# Altium footprint library version2.PcbLib: 15 footprints
Each footprint in its own frame and in the unit in brackets; x right, y up, seen from the top. Pads: shape width x height; smd on the part's side, far side on the other; paste and mask are expansions set on the pad; w line width, h text height; cw(c..) or ccw(c..) is an arc to the next point about the centre after c.
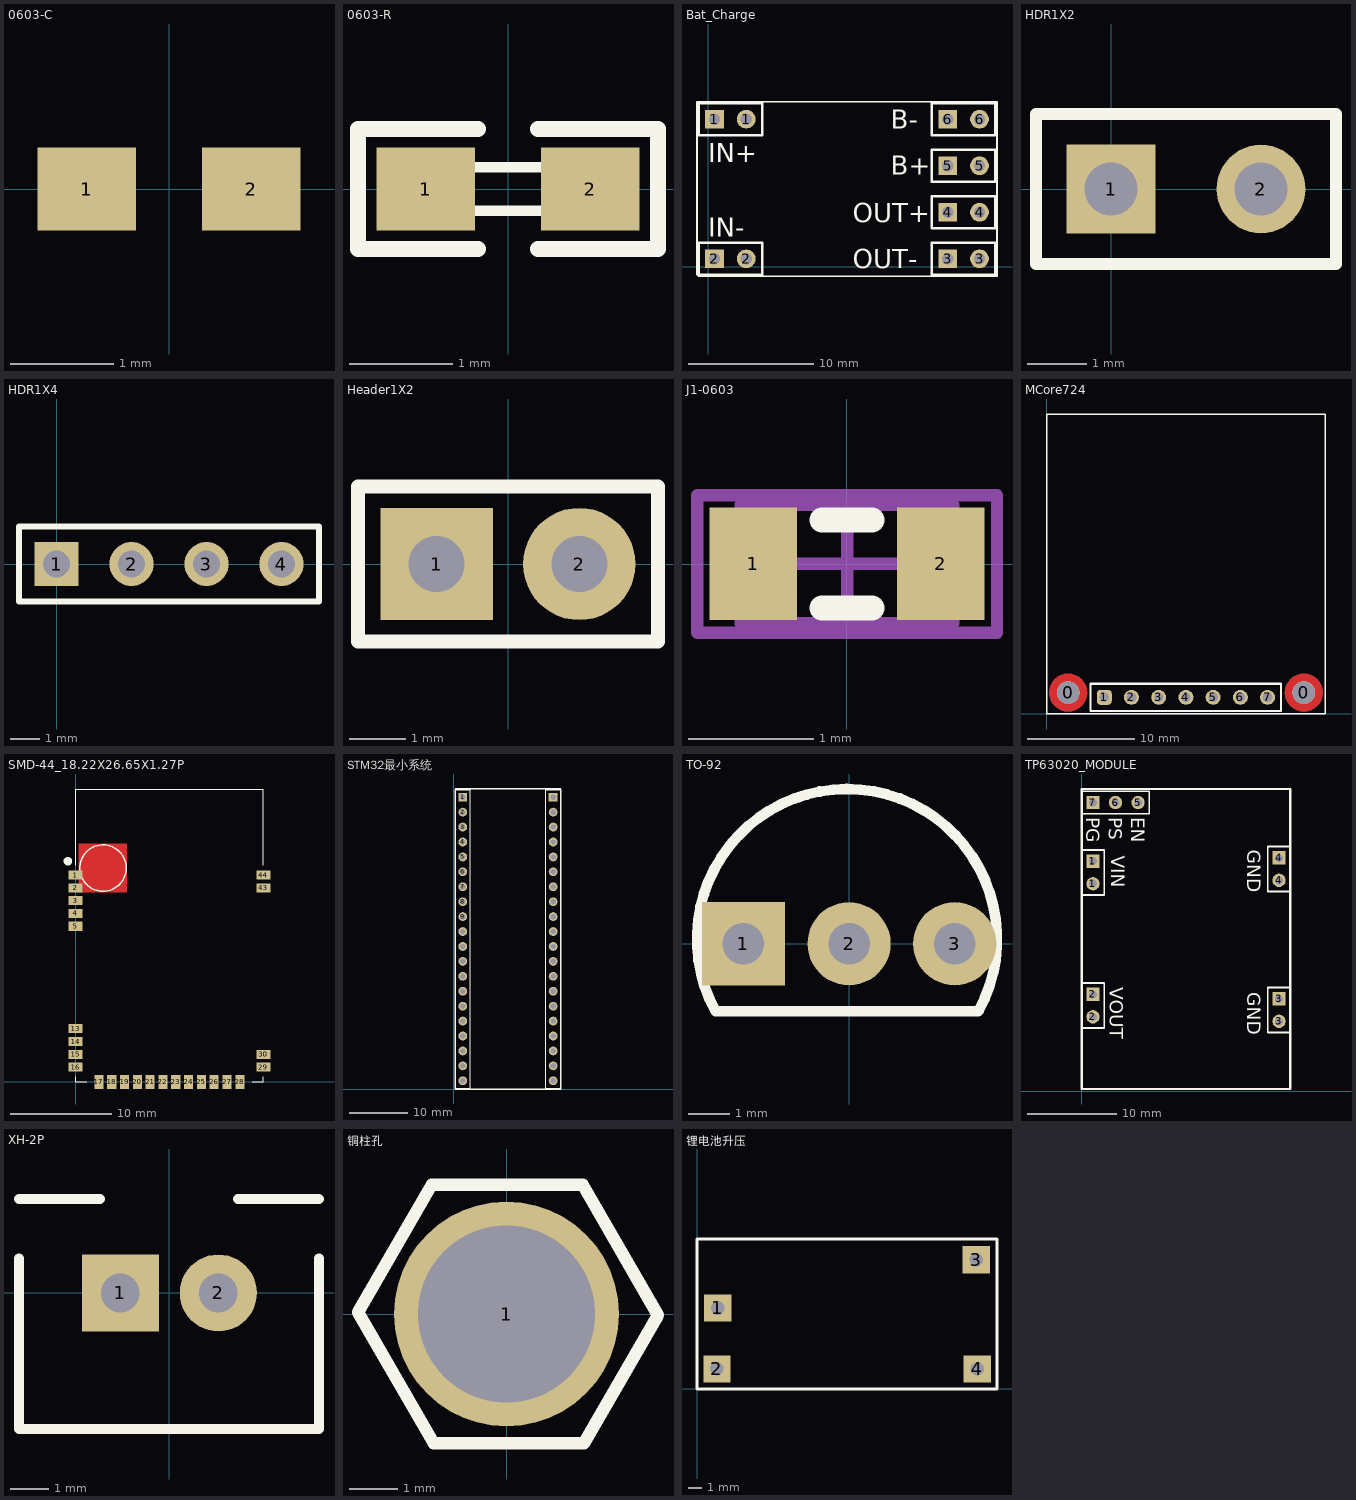
[diagram p0: the footprints below, top view; thin cyan lines are the x and y axes]

## 0603-C [mm]
pads (2):
  rect 0.953x0.8 smd: 1(-0.794,0) 2(0.794,0)
Bottom Overlay:
  lines w0.1: -0.794,0 -0.17,0 ; -0.15,-0.5 -0.15,0.5 ; 0.15,-0.5 0.15,0.5 ; 0.17,0 0.794,0
  lines w0.154: -0.29,-0.58 -1.45,-0.58 -1.45,0.58 -0.29,0.58 ; 0.29,-0.58 1.45,-0.58 1.45,0.58 0.29,0.58
3D body "SW3dPS-0603 SMD Capacitor.STEP": height 0.3, standoff 0, extent -0.8,-0.4 0.8,0.4

## 0603-R [mm]
pads (2):
  rect 0.953x0.8 smd: 1(-0.794,0) 2(0.794,0)
Top Overlay:
  lines w0.1: -0.794,0 -0.65,0 ; 0.65,0 0.794,0 ; -0.65,-0.21 0.65,-0.21 0.65,0.21 -0.65,0.21 -0.65,-0.21
  lines w0.154: -0.29,-0.58 -1.45,-0.58 -1.45,0.58 -0.29,0.58 ; 0.29,-0.58 1.45,-0.58 1.45,0.58 0.29,0.58
3D body "SW3dPS-0603 SMD Resistor.STEP": height 0.3, standoff 0, extent -0.8,-0.4 0.8,0.4

## Bat_Charge [mm]
pads (12):
  rect 1.5x1.5 hole 0.9: 1(0.508,11.811) 2(0.508,0.635) 3(19.177,0.635) 4(19.177,4.36) 5(19.177,8.086) 6(19.177,11.811)
  round 1.5 hole 0.9: 1(3.048,11.811) 2(3.048,0.635) 3(21.717,0.635) 4(21.717,4.36) 5(21.717,8.086) 6(21.717,11.811)
Top Layer:
  lines w0.254: 21.717,4.36 21.717,4.445
Top Overlay:
  lines w0.127: -0.889,-0.635 -0.762,-0.762 23.114,-0.762 23.114,13.208 -0.889,13.208 -0.889,-0.635
  lines w0.2: -0.762,-0.635 4.318,-0.635 4.318,1.905 -0.762,1.905 -0.762,-0.635 ; -0.762,10.541 4.318,10.541 4.318,13.081 -0.762,13.081 -0.762,10.541 ; 17.907,-0.635 22.987,-0.635 22.987,1.905 17.907,1.905 17.907,-0.635 ; 17.907,3.09 22.987,3.09 22.987,5.63 17.907,5.63 17.907,3.09 ; 17.907,6.816 22.987,6.816 22.987,9.356 17.907,9.356 17.907,6.816 ; 17.907,10.541 22.987,10.541 22.987,13.081 17.907,13.081 17.907,10.541
  text "IN+" at 0,8.382 h1.52
  text "IN-" at 0,2.413 h1.52
  text "B-" at 14.605,11.049 h1.52
  text "B+" at 14.605,7.366 h1.52
  text "OUT+" at 11.557,3.556 h1.52
  text "OUT-" at 11.557,-0.127 h1.52

## HDR1X2 [mm]
pads (2):
  rect 1.5x1.5 hole 0.9: 1(0,0)
  round 1.5 hole 0.9: 2(2.54,0)
Top Overlay:
  lines w0.2: -1.27,-1.27 -1.27,1.27 3.81,1.27 3.81,-1.27 -1.27,-1.27

## HDR1X4 [mm]
pads (4):
  rect 1.5x1.5 hole 0.9: 1(0,0)
  round 1.5 hole 0.9: 2(2.54,0) 3(5.08,0) 4(7.62,0)
Top Overlay:
  lines w0.2: -1.27,-1.27 8.89,-1.27 8.89,1.27 -1.27,1.27 -1.27,-1.27

## Header1X2 [mm]
pads (2):
  rect 2x2 hole 1: 1(-1.27,0)
  round 2 hole 1: 2(1.27,0)
Top Overlay:
  lines w0.254: -2.67,-1.38 2.67,-1.38 2.67,1.38 -2.67,1.38 -2.67,-1.38
3D body "Samtec-MTLW-102-07-G-S-250.STEP": height 7.87, standoff -3.05, extent -2.54,-1.245 2.54,1.245

## J1-0603 [mm]
pads (2):
  rect 0.7x0.9 smd: 1(-0.75,0) 2(0.75,0)
Top Overlay:
  lines w0.2: -0.2,-0.35 0.2,-0.35 ; -0.2,0.35 0.2,0.35
Mechanical 13:
  lines w0.1: -0.85,-0.475 -0.85,0.475 0.85,0.475 0.85,-0.475 -0.85,-0.475
Mechanical 15:
  lines w0.1: -0.475,0 0.475,0 ; 0,-0.475 0,0.475 ; -1.2,-0.55 -1.2,0.55 1.2,0.55 1.2,-0.55 -1.2,-0.55
3D body: height 0.9, standoff 0, extent -0.85,-0.475 0.85,0.475

## MCore724 [mm]
pads (9):
  round 2.1 hole 2.1 unplated: 0(2,1.997) 0(24,1.997)
  rrect50% 1.4x1.4 hole 0.9: 1(5.373,1.555)
  round 1.4 hole 0.9: 2(7.913,1.555) 3(10.453,1.555) 4(12.993,1.555) 5(15.533,1.555) 6(18.073,1.555) 7(20.613,1.555)
Top Layer:
  pour cut-out: 22.229,1.997 22.263,1.651 22.364,1.319 22.527,1.013 22.748,0.744 23.016,0.524 23.322,0.36 23.654,0.259 24,0.225 24.346,0.259 24.678,0.36 24.984,0.524 25.252,0.744 25.473,1.013 25.636,1.319 25.737,1.651 25.771,1.997 25.737,2.342 25.636,2.674 25.473,2.981 25.252,3.249 24.984,3.469 24.678,3.633 24.346,3.734 24,3.768 23.654,3.734 23.322,3.633 23.016,3.469 22.748,3.249 22.527,2.981 22.364,2.674 22.263,2.342
  pour cut-out: 0.229,1.997 0.263,1.651 0.364,1.319 0.527,1.013 0.748,0.744 1.016,0.524 1.322,0.36 1.654,0.259 2,0.225 2.346,0.259 2.678,0.36 2.984,0.524 3.252,0.744 3.473,1.013 3.636,1.319 3.737,1.651 3.771,1.997 3.737,2.342 3.636,2.674 3.473,2.981 3.252,3.249 2.984,3.469 2.678,3.633 2.346,3.734 2,3.768 1.654,3.734 1.322,3.633 1.016,3.469 0.748,3.249 0.527,2.981 0.364,2.674 0.263,2.342
Bottom Layer:
  circle w0: c24,1.997 r1.05
  circle w0: c2,1.997 r1.05
  pour cut-out: 22.242,1.997 22.275,1.654 22.375,1.324 22.538,1.02 22.757,0.753 23.023,0.534 23.327,0.372 23.657,0.272 24,0.238 24.343,0.272 24.673,0.372 24.977,0.534 25.243,0.753 25.462,1.02 25.625,1.324 25.725,1.654 25.758,1.997 25.725,2.34 25.625,2.67 25.462,2.974 25.243,3.24 24.977,3.459 24.673,3.621 24.343,3.721 24,3.755 23.657,3.721 23.327,3.621 23.023,3.459 22.757,3.24 22.538,2.974 22.375,2.67 22.275,2.34
  pour cut-out: 0.242,1.997 0.275,1.654 0.375,1.324 0.538,1.02 0.757,0.753 1.023,0.534 1.327,0.372 1.657,0.272 2,0.238 2.343,0.272 2.673,0.372 2.977,0.534 3.243,0.753 3.462,1.02 3.625,1.324 3.725,1.654 3.758,1.997 3.725,2.34 3.625,2.67 3.462,2.974 3.243,3.24 2.977,3.459 2.673,3.621 2.343,3.721 2,3.755 1.657,3.721 1.327,3.621 1.023,3.459 0.757,3.24 0.538,2.974 0.375,2.67 0.275,2.34
Top Overlay:
  lines w0.127: 0,-0.003 0,27.997 26,27.997 26,0 0,0
  lines w0.2: 4.103,0.285 4.103,2.825 21.883,2.825 21.883,0.285 4.103,0.285
Bottom Overlay:
  lines w0.2: 4.103,0.285 4.103,2.825 21.883,2.825 21.883,0.285 4.103,0.285
Top Solder:
  region: 22.242,1.997 22.275,1.654 22.375,1.324 22.538,1.02 22.757,0.753 23.023,0.534 23.327,0.372 23.657,0.272 24,0.238 24.343,0.272 24.673,0.372 24.977,0.534 25.243,0.753 25.462,1.02 25.625,1.324 25.725,1.654 25.758,1.997 25.725,2.34 25.625,2.67 25.462,2.974 25.243,3.24 24.977,3.459 24.673,3.621 24.343,3.721 24,3.755 23.657,3.721 23.327,3.621 23.023,3.459 22.757,3.24 22.538,2.974 22.375,2.67 22.275,2.34
  region: 0.242,1.997 0.275,1.654 0.375,1.324 0.538,1.02 0.757,0.753 1.023,0.534 1.327,0.372 1.657,0.272 2,0.238 2.343,0.272 2.673,0.372 2.977,0.534 3.243,0.753 3.462,1.02 3.625,1.324 3.725,1.654 3.758,1.997 3.725,2.34 3.625,2.67 3.462,2.974 3.243,3.24 2.977,3.459 2.673,3.621 2.343,3.721 2,3.755 1.657,3.721 1.327,3.621 1.023,3.459 0.757,3.24 0.538,2.974 0.375,2.67 0.275,2.34
Bottom Solder:
  circle w0: c24,1.997 r1.75
  circle w0: c2,1.997 r1.75
  region: 22.242,1.997 22.275,1.654 22.375,1.324 22.538,1.02 22.757,0.753 23.023,0.534 23.327,0.372 23.657,0.272 24,0.238 24.343,0.272 24.673,0.372 24.977,0.534 25.243,0.753 25.462,1.02 25.625,1.324 25.725,1.654 25.758,1.997 25.725,2.34 25.625,2.67 25.462,2.974 25.243,3.24 24.977,3.459 24.673,3.621 24.343,3.721 24,3.755 23.657,3.721 23.327,3.621 23.023,3.459 22.757,3.24 22.538,2.974 22.375,2.67 22.275,2.34
  region: 0.242,1.997 0.275,1.654 0.375,1.324 0.538,1.02 0.757,0.753 1.023,0.534 1.327,0.372 1.657,0.272 2,0.238 2.343,0.272 2.673,0.372 2.977,0.534 3.243,0.753 3.462,1.02 3.625,1.324 3.725,1.654 3.758,1.997 3.725,2.34 3.625,2.67 3.462,2.974 3.243,3.24 2.977,3.459 2.673,3.621 2.343,3.721 2,3.755 1.657,3.721 1.327,3.621 1.023,3.459 0.757,3.24 0.538,2.974 0.375,2.67 0.275,2.34
Keep-Out Layer:
  board cut-out: 22.941,1.997 22.977,1.722 23.083,1.467 23.251,1.248 23.47,1.079 23.726,0.974 24,0.938 24.274,0.974 24.53,1.079 24.749,1.248 24.917,1.467 25.023,1.722 25.059,1.997 25.023,2.271 24.917,2.526 24.749,2.745 24.53,2.914 24.274,3.02 24,3.056 23.726,3.02 23.47,2.914 23.251,2.745 23.083,2.526 22.977,2.271
  board cut-out: 0.941,1.997 0.977,1.722 1.083,1.467 1.251,1.248 1.47,1.079 1.726,0.974 2,0.938 2.274,0.974 2.53,1.079 2.749,1.248 2.917,1.467 3.023,1.722 3.059,1.997 3.023,2.271 2.917,2.526 2.749,2.745 2.53,2.914 2.274,3.02 2,3.056 1.726,3.02 1.47,2.914 1.251,2.745 1.083,2.526 0.977,2.271
3D body "1001-7.STEP": height 8.54, standoff -3, extent 4.103,0.285 21.883,2.825

## SMD-44_18.22X26.65X1.27P [mm]
pads (25):
  rect 1.4x0.9 smd: 1(0,20.52) 2(0,19.25) 3(0,17.98) 4(0,16.71) 5(0,15.44) 13(0,5.28) 14(0,4.01) 15(0,2.74) 16(0,1.47) 29(18.62,1.47) 30(18.62,2.74) 43(18.62,19.25) 44(18.62,20.52)
  rect 0.9x1.4 smd: 17(2.31,0) 18(3.58,0) 19(4.85,0) 20(6.12,0) 21(7.39,0) 22(8.66,0) 23(9.93,0) 24(11.2,0) 25(12.47,0) 26(13.74,0) 27(15.02,0) 28(16.29,0)
Top Layer:
  pour cut-out: 0.33,23.622 5.08,23.622 5.08,18.796 0.33,18.796
Top Overlay:
  circle w0.762: c-0.762,21.895 r0.036
  circle w0.152: c2.72,21.21 r2.3
  lines w0.07: 0,0.5 0,0 1.12,0 ; 0,21.5 0,29.05 18.62,29.05 18.62,21.5 ; 17.5,0 18.62,0 18.62,0.5

## STM32最小系统 [mm]
pads (40):
  rect 1.5x1.5 hole 0.9: 1(1.524,49.657) 21(16.891,49.657)
  round 1.5 hole 0.9: 2(1.524,47.117) 3(1.524,44.577) 4(1.524,42.037) 5(1.524,39.497) 6(1.524,36.957) 7(1.524,34.417) 8(1.524,31.877) 9(1.524,29.337) 10(1.524,26.797) 11(1.524,24.257) 12(1.524,21.717) 13(1.524,19.177) 14(1.524,16.637) 15(1.524,14.097) 16(1.524,11.557) 17(1.524,9.017) 18(1.524,6.477) 19(1.524,3.937) 20(1.524,1.397) 22(16.891,47.117) 23(16.891,44.577) 24(16.891,42.037) 25(16.891,39.497) 26(16.891,36.957) 27(16.891,34.417) 28(16.891,31.877) 29(16.891,29.337) 30(16.891,26.797) 31(16.891,24.257) 32(16.891,21.717) 33(16.891,19.177) 34(16.891,16.637) 35(16.891,14.097) 36(16.891,11.557) 37(16.891,9.017) 38(16.891,6.477) 39(16.891,3.937) 40(16.891,1.397)
Bottom Layer:
  lines w0.254: 16.891,19.177 17.129,19.415
Top Overlay:
  lines w0.2: 0.254,0.127 0.254,50.927 2.794,50.927 2.794,49.022 2.794,0.127 0.254,0.127 ; 15.621,0.127 15.621,50.927 18.161,50.927 18.161,49.022 18.161,0.127 15.621,0.127
  lines w0.254: 0.206,51.049 0.206,0 18.216,0 18.216,51.049 ; 0.206,51.054 18.216,51.054

## TO-92 [mm]
pads (3):
  rect 2x2 hole 1: 1(-2.54,0)
  round 2 hole 1: 2(0,0) 3(2.54,0)
Top Overlay:
  lines w0.254: -3.209,-1.626 cw(c-0.05,0.113) 3.118,-1.611 ; -3.18,-1.622 3.1,-1.622
3D body "User Library-TO-92_Bent.STEP": height 10, standoff -3, extent -2.79,-1.59 2.79,2.614

## TP63020_MODULE [mm]
pads (11):
  round 1.5 hole 0.9: 1(1.277,23.362) 2(1.277,8.376) 3(22.232,7.868) 4(22.232,23.743) 5(6.357,32.506) 6(3.817,32.506)
  rect 1.5x1.5 hole 0.9: 1(1.277,25.902) 2(1.277,10.916) 3(22.232,10.408) 4(22.232,26.283) 7(1.277,32.506)
Bottom Layer:
  lines w0.254: 1.143,25.768 1.277,25.902
Top Overlay:
  lines w0.2: 0.007,7.106 0.007,12.186 2.547,12.186 2.547,7.106 0.007,7.106 ; 0.007,22.092 0.007,27.172 2.547,27.172 2.547,22.092 0.007,22.092 ; 0.007,31.236 0.007,33.776 7.627,33.776 7.627,31.236 0.007,31.236 ; 20.962,6.598 20.962,11.678 23.502,11.678 23.502,6.598 20.962,6.598 ; 20.962,22.473 20.962,27.553 23.502,27.553 23.502,22.473 20.962,22.473
  lines w0.254: 23.375,0.248 0.007,0.248 0.007,34.03 23.502,34.03 23.502,22.346 23.502,0.248
  text "PG" at 0.515,30.855 h1.52
  text "PS" at 3.055,30.855 h1.52
  text "EN" at 5.595,30.855 h1.52
  text "VOUT" at 3.182,11.678 h1.52
  text "VIN" at 3.309,26.537 h1.52
  text "GND" at 18.676,11.17 h1.52
  text "GND" at 18.676,27.172 h1.52

## XH-2P [mm]
pads (2):
  rect 2x2 hole 1: 1(-1.27,0)
  round 2 hole 1: 2(1.27,0)
Top Overlay:
  lines w0.254: -3.9,0.9 -3.9,-3.53 3.88,-3.53 3.88,0.9 ; -3.9,2.44 -1.8,2.44 ; 1.78,2.44 3.88,2.44
3D body "Header-XH2.5-2.STEP": height 7, standoff -3.3, extent -3.75,-3.4 3.75,2.3

## 铜柱孔 [mm]
pads (1):
  round 4.7 hole 3.7: 1(0,0)
Top Overlay:
  lines w0.254: -3.103,0.037 -1.523,-2.7 1.619,-2.7 3.164,-0.023 1.592,2.7 -1.565,2.7 -3.103,0.037

## 锂电池升压 [mm]
pads (4):
  rect 2x2 hole 1: 1(1.524,5.969) 2(1.467,1.482) 3(20.574,9.525) 4(20.644,1.482)
Top Overlay:
  lines w0.254: 22.098,0 0,0 0,11.049 22.098,11.049 22.098,0.127